# EAGLE library part AD9833-MOD (library yb-library)
AD9833 DDS-Modul (Made in China)
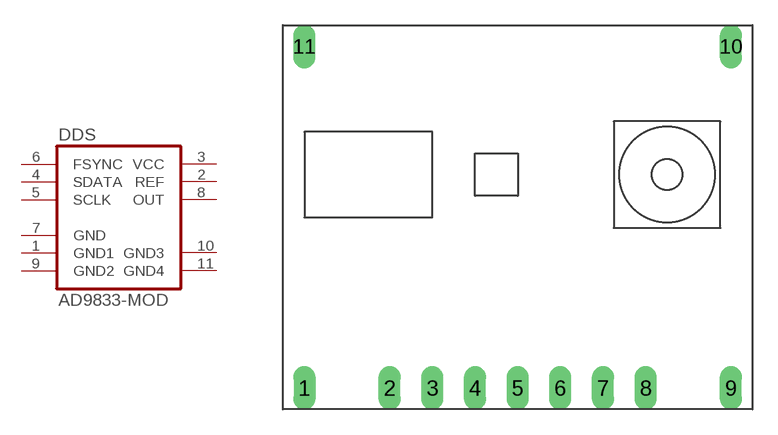
[diagram p2: symbol with the pads of AD9833-MOD; footprint AD9833-MOD]

Designator prefix DDS

## AD9833-MOD  [AD9833-MOD]
1  GND1  pwr
2  REF  out
3  VCC  pwr
4  SDATA  in
5  SCLK  in
6  FSYNC  in
7  GND  pwr
8  OUT  out
9  GND2  pwr
10  GND3  pwr
11  GND4  pwr

## Footprint AD9833-MOD (pad centres in mm)
drill 0.813 long: 1 -12.7,-10.16; 2 -7.62,-10.16; 3 -5.08,-10.16; 4 -2.54,-10.16; 5 0,-10.16; 6 2.54,-10.16; 7 5.08,-10.16; 8 7.62,-10.16; 9 12.7,-10.16; 10 12.7,10.16; 11 -12.7,10.16